# Altium schematic symbol library IntegratedCircuits.SchLib: 7 symbols
Pins are listed as number, name and electrical type; pins without a type are passive.

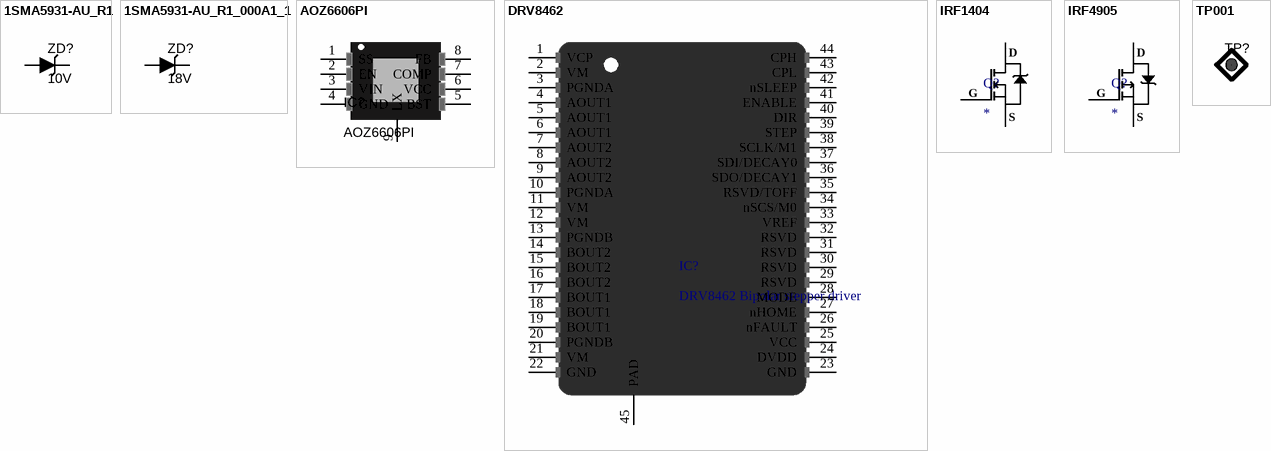
[diagram p0: symbols 1SMA5931-AU_R1 to TP001]

## 1SMA5931-AU_R1
designator ZD?, comment 10V
Zener Diode 10 V 5 W ±5% Surface Mount SMC (DO-214AB); Value: 10V; ComponentLink1Description: digikey; ComponentLink1URL: https://www.digikey.com/en/products/detail/panjit-international-inc/1SMC5347-AU-R1-000A1/15799564
footprint DIO_SMA (Molded Diode, 2-Leads, Body 4.30x2.70mm, IPC Medium Density)
pins: 1 Cathode, 2 Anode

## 1SMA5931-AU_R1_000A1_1
designator ZD?, comment 18V
Zener Diode 18 V 1.5 W ±5% Surface Mount SMA (DO-214AC); Value: 18V; ComponentLink1Description: digikey; ComponentLink1URL: https://www.digikey.com/en/products/detail/panjit-international-inc/1SMA5931-AU-R1-000A1/15799815
footprint DIO_SMA (Molded Diode, 2-Leads, Body 4.30x2.70mm, IPC Medium Density)
pins: 1 Cathode, 2 Anode

## AOZ6606PI
designator IC?
partName: AOZ6606PI
footprint SOP127P600X170_HS-9N (SOP, 8-Leads, Body 4.90x3.90mm, Pitch 1.27mm, Thermal Pad 3.60x2.61mm, IPC Medium Density)
pins: 1 SS, 2 EN, 3 VIN, 4 GND, 5 BST, 6 VCC, 7 COMP, 8 FB, 9 LX

## DRV8462
designator IC?, comment DRV8462 Bipolar stepper driver
65-V, 10-A, DUAL H-BRIDGE STEPPER DRIVER; Digikey part number: 296-DRV8462DDWRTR-ND; ComponentLink1Description: DigiKey; ComponentLink1URL: https://www.digikey.com/en/products/detail/texas-instruments/DRV8462DDWR/17395001?s=N4IgTCBcDaICYCcBuAOALANggXQL5A; Mouser part number: 595-DRV8462DDWR; ComponentLink2Description: Mouser; ComponentLink2URL: https://eu.mouser.com/ProductDetail/Texas-Instruments/DRV8462DDWR?qs=rQFj71Wb1eVexvYNsDfnvA%3D%3D; ComponentLink3Description: datasheet; ComponentLink3URL: https://www.ti.com/lit/ds/symlink/drv8462.pdf
footprint TSOP64P810X120_HS-45N (TSOP, 44-Leads, Body 14.00x6.10mm, Pitch 0.64mm, Thermal Pad 8.00x3.80mm, IPC Medium Density)
pins: 1 VCP, 2 VM, 3 PGNDA, 4 AOUT1, 5 AOUT1, 6 AOUT1, 7 AOUT2, 8 AOUT2, 9 AOUT2, 10 PGNDA, 11 VM, 12 VM, 13 PGNDB, 14 BOUT2, 15 BOUT2, 16 BOUT2, 17 BOUT1, 18 BOUT1, 19 BOUT1, 20 PGNDB, 21 VM, 22 GND, 23 GND, 24 DVDD, 25 VCC, 26 nFAULT, 27 nHOME, 28 MODE, 29 RSVD, 30 RSVD, 31 RSVD, 32 RSVD, 33 VREF, 34 nSCS/M0, 35 RSVD/TOFF, 36 SDO/DECAY1, 37 SDI/DECAY0, 38 SCLK/M1, 39 STEP, 40 DIR, 41 ENABLE, 42 nSLEEP, 43 CPL, 44 CPH, 45 PAD

## IRF1404
designator Q?
Manufacturer: International Rectifier; Manufacturer Part Number: IRF1404ZSPBF; Continuous Drain Current (ID): 75A; Current Rating: 49A; Drain to Source Breakdown Voltage: 40V; Drain to Source Resistance: 4mR; Drain-source On Resistance-Max: 3.7MR; Dual Supply Voltage: 55V; Element Configuration: Single; Fall Time: 58ns; Gate to Source Voltage (Vgs): 20V; Input Capacitance: 4.34nF; Max Power Dissipation: 200W; Nominal Vgs: 4V; Number of Elements: 1; Polarity: N-CHANNEL; Power Dissipation: 220W; Recovery Time: 42ns; Rise Time: 110ns; Turn-Off Delay Time: 36ns; Turn-On Delay Time: 18ns; Case/Package: D2PAK; Category: MOSFETs; Drain to Source Voltage (Vdss): 40V; Height: 4.83mm; Lead Free: Lead Free; Length: 10.67mm; Max Operating Temperature: 175°C; Min Operating Temperature: -55°C; Mount: Surface Mount; Number of Pins: 3; Package Quantity: 50; Packaging: Rail/Tube; Radiation Hardening: No; Rds On Max: 3.7mR; REACH SVHC: No SVHC; RoHS Compliant: Yes; Series: HEXFET®; Termination: SMD/SMT; Voltage Rating (DC): 55V; Width: 9.65mm; On-State Resistance: 3.7MR; Threshold Voltage: 4V
footprint DPAK254P1524X483-3N (D2-PAK, 3-Pads, Body 7.93x8.70mm (max), IPC Medium Density)
pins: 1 G, 3, 4
text: D; S

## IRF4905
designator Q?
Manufacturer: International Rectifier; Manufacturer Part Number: IRF1404ZSPBF; Continuous Drain Current (ID): 75A; Current Rating: 49A; Drain to Source Breakdown Voltage: 40V; Drain to Source Resistance: 4mR; Drain-source On Resistance-Max: 3.7MR; Dual Supply Voltage: 55V; Element Configuration: Single; Fall Time: 58ns; Gate to Source Voltage (Vgs): 20V; Input Capacitance: 4.34nF; Max Power Dissipation: 200W; Nominal Vgs: 4V; Number of Elements: 1; Polarity: N-CHANNEL; Power Dissipation: 220W; Recovery Time: 42ns; Rise Time: 110ns; Turn-Off Delay Time: 36ns; Turn-On Delay Time: 18ns; Case/Package: D2PAK; Category: MOSFETs; Drain to Source Voltage (Vdss): 40V; Height: 4.83mm; Lead Free: Lead Free; Length: 10.67mm; Max Operating Temperature: 175°C; Min Operating Temperature: -55°C; Mount: Surface Mount; Number of Pins: 3; Package Quantity: 50; Packaging: Rail/Tube; Radiation Hardening: No; Rds On Max: 3.7mR; REACH SVHC: No SVHC; RoHS Compliant: Yes; Series: HEXFET®; Termination: SMD/SMT; Voltage Rating (DC): 55V; Width: 9.65mm; On-State Resistance: 3.7MR; Threshold Voltage: 4V
footprint DPAK254P1524X483-3N (D2-PAK, 3-Pads, Body 7.93x8.70mm (max), IPC Medium Density)
pins: 1 G, 3, 4
text: D; S

## TP001
designator TP?, comment TestPoint  (value not drawn)
footprint TestPoint (1mm)
pins: 1 "Test Point"